# EAGLE library part SN65HVD232 (library pixhawk2)
3.3-V CAN TRANSCEIVER
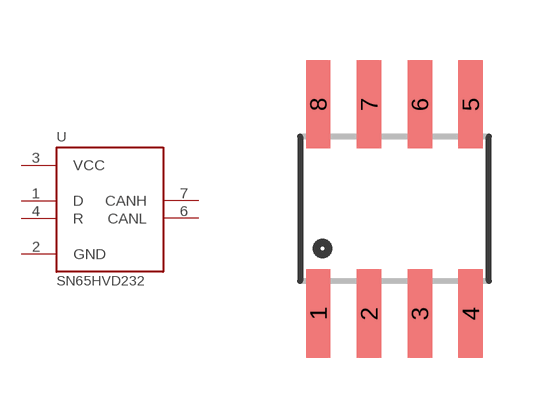
[diagram p6: symbol with the pads of SO08; footprint SO08]

Designator prefix U

## SN65HVD232  [SO08]
1  D  in
2  GND  sup
3  VCC  in
4  R  out
5  NC  nc
6  CANL
7  CANH
8  NC2  nc

## Footprint SO08 (pad centres in mm)
Small Outline Package Fits JEDEC packages (narrow SOIC-8)
smd 0.61 x 2.21: 1 -1.905,-2.616; 2 -0.635,-2.616; 3 0.635,-2.616; 4 1.905,-2.616; 5 1.905,2.616; 6 0.635,2.616; 7 -0.635,2.616; 8 -1.905,2.616